# EAGLE library part SM04B-ULHK-1TA1-ETB_HF_ (library SM04B-ULHK-1TA1-ETB_HF_)
Automotive Connectors 4P ULH Series 0.50 SMT Side Entry Header Key 1 Tin Black Source: Datasheet <https://www.jst-mfg.com/product/pdf/eng/eULH.pdf?65dd9a2fd1056>
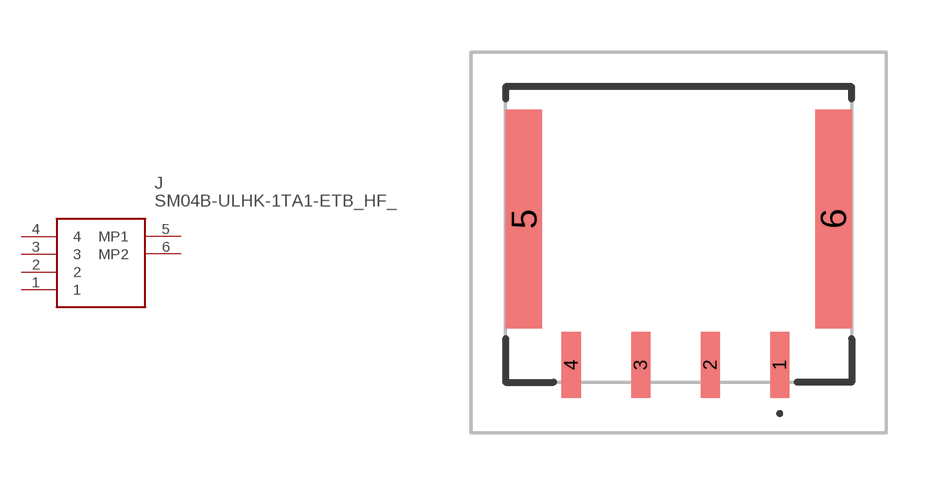
[diagram p0: symbol with the pads of SM04BULHK1TA1ETBHF; footprint SM04BULHK1TA1ETBHF]

Designator prefix J

## SM04B-ULHK-1TA1-ETB_HF_ (Description: Automotive Connectors 4P ULH Series 0.50 SMT Side Entry Header Key 1 Tin Black; Height: 3.5mm; Manufacturer_Name: JST (JAPAN SOLDERLESS TERMINALS); Manufacturer_Part_Number: SM04B-ULHK-1TA1-ETB(HF); Mouser_Part_Number: 306-SM4BULH1TA1ETBHF; Mouser_Price-Stock: https://www.mouser.co.uk/ProductDetail/JST-Automotive/SM04B-ULHK-1TA1-ETBHF?qs=T%252BzbugeAwjhMN2sH8j2Cng%3D%3D)  [SM04BULHK1TA1ETBHF]
1  1
2  2
3  3
4  4
5  MP1
6  MP2

## Footprint SM04BULHK1TA1ETBHF (pad centres in mm)
SM04B-ULHK-1TA1-ETB(HF)
smd 0.55 x 1.9: 1 2.91,-3.75; 2 0.91,-3.75; 3 -1.09,-3.75; 4 -3.09,-3.75
smd 1.05 x 6.3: 5 -4.45,0.45; 6 4.45,0.45